# Altium schematic symbol library C2Q-375.SchLib: 1 symbol
Pins are listed as number, name and electrical type; pins without a type are passive.

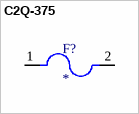
[diagram p0: symbol C2Q-375]

## C2Q-375
designator F?
MP: C2Q-375; Package: None; Price: None; Value: *; Availability: Unavailable
footprint FUSC1608X56N
pins: 1, 2